# EAGLE library part 74HC14 (library IC)
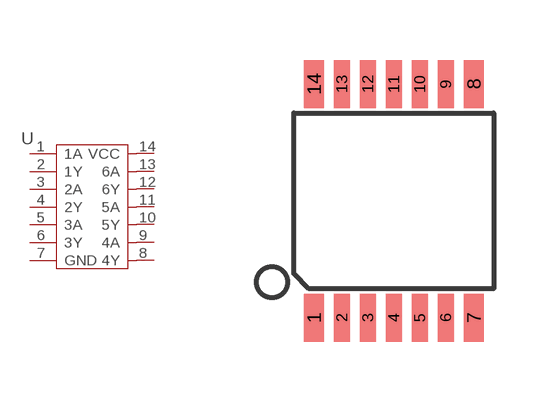
[diagram p184: symbol with the pads of TSSOP14; footprint TSSOP14]

Designator prefix U

## 74HC14  [TSSOP14]
1  1A  in
2  1Y  out
3  2A  in
4  2Y  out
5  3A  in
6  3Y  out
7  GND  sup
8  4Y  out
9  4A  in
10  5Y  out
11  5A  in
12  6Y  out
13  6A  in
14  VCC  sup

## Footprint TSSOP14 (pad centres in mm)
smd 0.5 x 1.2: 1 -2,-2.925; 7 2,-2.925; 8 2,2.925; 14 -2,2.925
smd 0.4 x 1.2: 2 -1.3,-2.925; 3 -0.65,-2.925; 4 0,-2.925; 5 0.65,-2.925; 6 1.3,-2.925; 9 1.3,2.925; 10 0.65,2.925; 11 0,2.925; 12 -0.65,2.925; 13 -1.3,2.925